# Altium footprint library 39301040.PcbLib: 1 footprints
Each footprint in its own frame and in the unit in brackets; x right, y up, seen from the top. Pads: shape width x height; smd on the part's side, far side on the other; paste and mask are expansions set on the pad; w line width, h text height; cw(c..) or ccw(c..) is an arc to the next point about the centre after c.
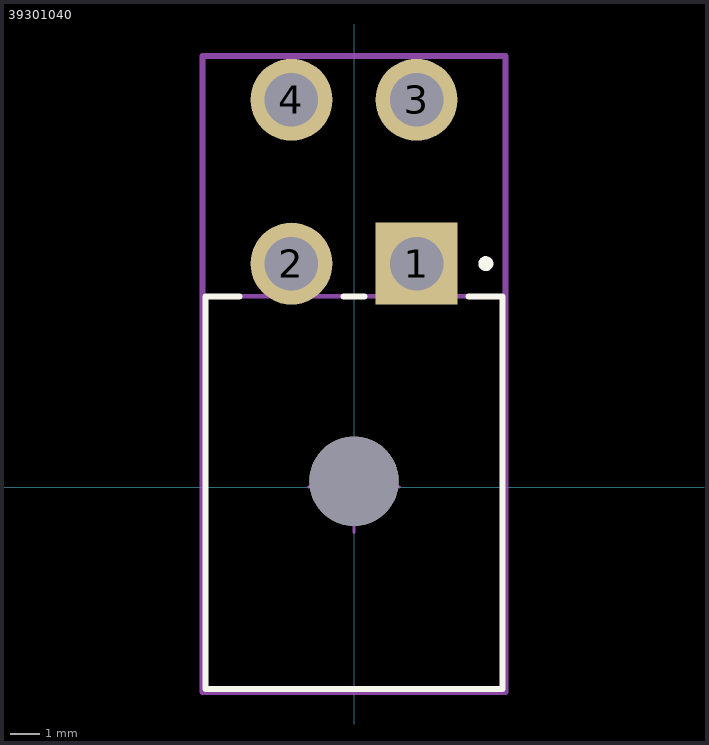
[diagram p0: the footprint, top view; thin cyan lines are the x and y axes]

## 39301040 [mm]
height 11
pads (5):
  rect 2.75x2.75 hole 1.8 paste-1000 mask+0: 1(2.1,7.5)
  round 2.75 hole 1.8 paste-1000 mask+0: 2(-2.1,7.5) 3(2.1,13) 4(-2.1,13)
  round 3 hole 3 unplated paste-1000 mask+0: ""(0,0.2)
Top Overlay:
  circle w0.25: c4.425,7.5 r0.125
  lines w0.2: -3.85,6.4 -4.99,6.4 -4.99,-6.78 4.99,-6.78 4.99,6.4 3.85,6.4 ; -0.35,6.4 0.35,6.4
Mechanical 10:
  lines w0.2: -5.09,-6.88 5.09,-6.88 5.09,14.475 -5.09,14.475 -5.09,-6.88
Mechanical 12:
  lines w0.15: -4.99,-6.78 4.99,-6.78 4.99,6.4 -4.99,6.4 -4.99,-6.78
Mechanical 15:
  lines w0.1: -1.527,0 1.527,0 ; 0,-1.527 0,1.527
  lines w0.2: -5.09,-6.88 5.09,-6.88 5.09,14.475 -5.09,14.475 -5.09,-6.88
3D body "Conn_Molex_39-30-1040_eec.STEP": height 11.45, standoff -3.55, extent -4.8,-6.398 5.2,13.537